# EAGLE library part FRAM (library OPEnS-RTC)
MB85RC128APNF-G-JNE1, FRAM 128k, 128kb, I2C
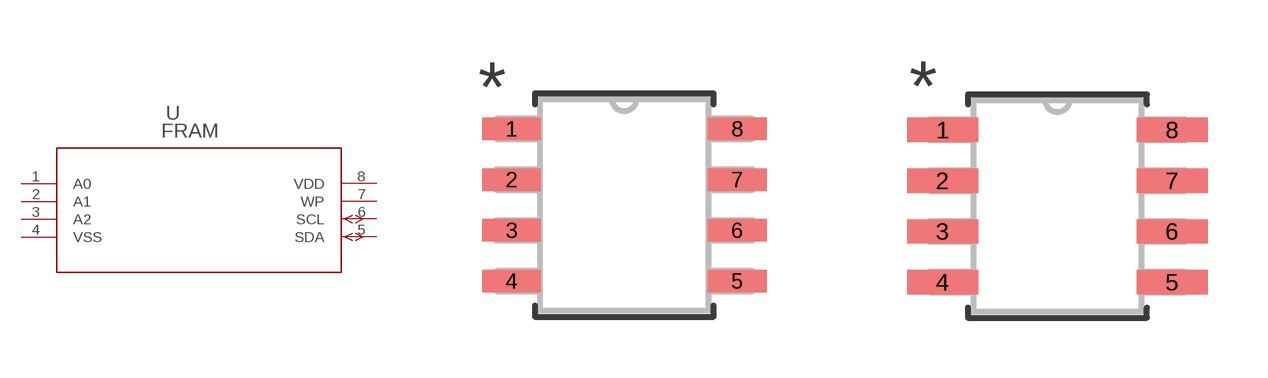
[diagram p1: symbol with the pads of FPT-8P-M02; footprints FPT-8P-M02, FPT-8P-M02-M]

Designator prefix U

## FRAM (MANUFACTURER_PART_NUMBER: Inc.; VENDOR: Fujitsu Semiconductor)  [FPT-8P-M02]
1  A0  pas
2  A1  pas
3  A2  pas
4  VSS  pwr
5  SDA
6  SCL
7  WP  pas
8  VDD  pwr

## FRAMFPT-8P-M02-M (MANUFACTURER_PART_NUMBER: Inc.; VENDOR: Fujitsu Semiconductor)  [FPT-8P-M02-M]
Pads as for FPT-8P-M02

## FRAMFPT-8P-M02-L (MANUFACTURER_PART_NUMBER: Inc.; VENDOR: Fujitsu Semiconductor)  [FPT-8P-M02-L]
Pads as for FPT-8P-M02

## Footprint FPT-8P-M02 (pad centres in mm)
smd 1.473 x 0.559: 1 -2.819,1.905; 2 -2.819,0.635; 3 -2.819,-0.635; 4 -2.819,-1.905; 5 2.819,-1.905; 6 2.819,-0.635; 7 2.819,0.635; 8 2.819,1.905

## Footprint FPT-8P-M02-M (pad centres in mm)
smd 1.778 x 0.61: 1 -2.87,1.905; 2 -2.87,0.635; 3 -2.87,-0.635; 4 -2.87,-1.905; 5 2.87,-1.905; 6 2.87,-0.635; 7 2.87,0.635; 8 2.87,1.905

## Footprint FPT-8P-M02-L (pad centres in mm)
smd 1.168 x 0.508: 1 -2.769,1.905; 2 -2.769,0.635; 3 -2.769,-0.635; 4 -2.769,-1.905; 5 2.769,-1.905; 6 2.769,-0.635; 7 2.769,0.635; 8 2.769,1.905